# EAGLE library part ATLAS-CIRCUIT (library awickert)
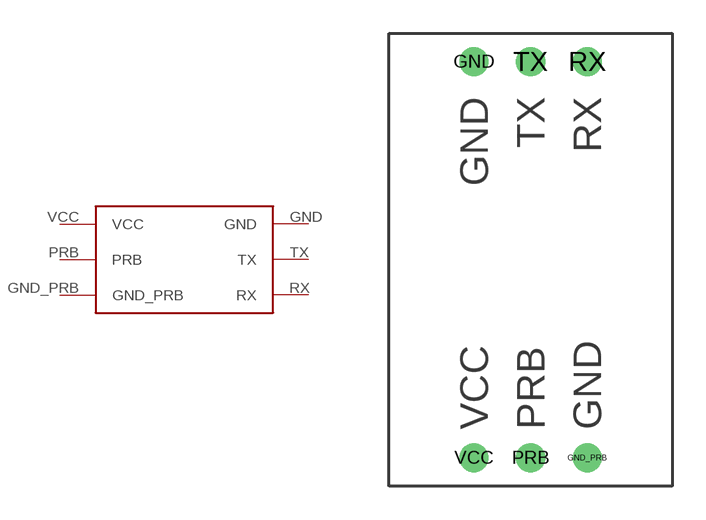
[diagram p7: symbol with the pads of ATLAS-CIRCUIT; footprint ATLAS-CIRCUIT]

Designator prefix -

## ATLAS-CIRCUIT  [ATLAS-CIRCUIT]
GND  GND
GND_PRB  GND_PRB
PRB  PRB
RX  RX
TX  TX
VCC  VCC

## Footprint ATLAS-CIRCUIT (pad centres in mm)
drill 0.8: GND 3.81,19.05; GND_PRB 8.89,1.27; PRB 6.35,1.27; RX 8.89,19.05; TX 6.35,19.05; VCC 3.81,1.27